# EAGLE library part HFBR-2533Z (library HFBR-2533Z)
Fibre Optic Transmitters, Receivers, Transceivers V-Link Ext Distnce R x Vert RoHS Source: Datasheet <https://docs.broadcom.com/docs/AV02-1501EN>
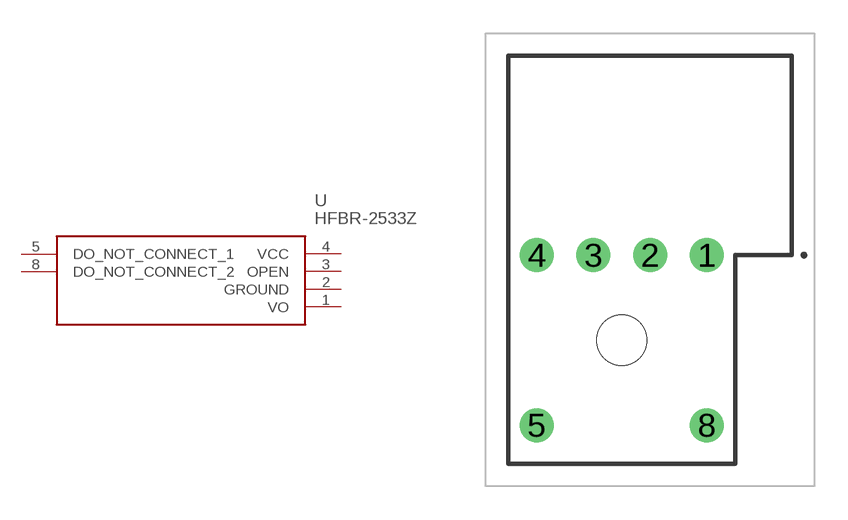
[diagram p0: symbol with the pads of HFBR2533Z; footprint HFBR2533Z]

Designator prefix U

## HFBR-2533Z (Description: Fibre Optic Transmitters, Receivers, Transceivers V-Link Ext Distnce R x Vert RoHS; Height: 18.8mm; Manufacturer_Name: Avago Technologies; Manufacturer_Part_Number: HFBR-2533Z; Mouser_Part_Number: 630-HFBR-2533Z; Mouser_Price-Stock: https://www.mouser.co.uk/ProductDetail/Broadcom-Avago/HFBR-2533Z?qs=jT9z6tsiFNk65rmydPk8Cg%3D%3D)  [HFBR2533Z]
1  VO
2  GROUND
3  OPEN
4  VCC
5  DO_NOT_CONNECT_1
8  DO_NOT_CONNECT_2

## Footprint HFBR2533Z (pad centres in mm)
HFBR-2533Z
drill 1.01 pad 1.515: 1 0,0; 2 -2.54,0; 3 -5.08,0; 4 -7.62,0; 5 -7.62,-7.62; 8 0,-7.62
hole 2.25 at -3.81,-3.81